# Altium schematic symbol library rys_component_lib.SchLib: 23 symbols
Pins are listed as number, name and electrical type; pins without a type are passive.

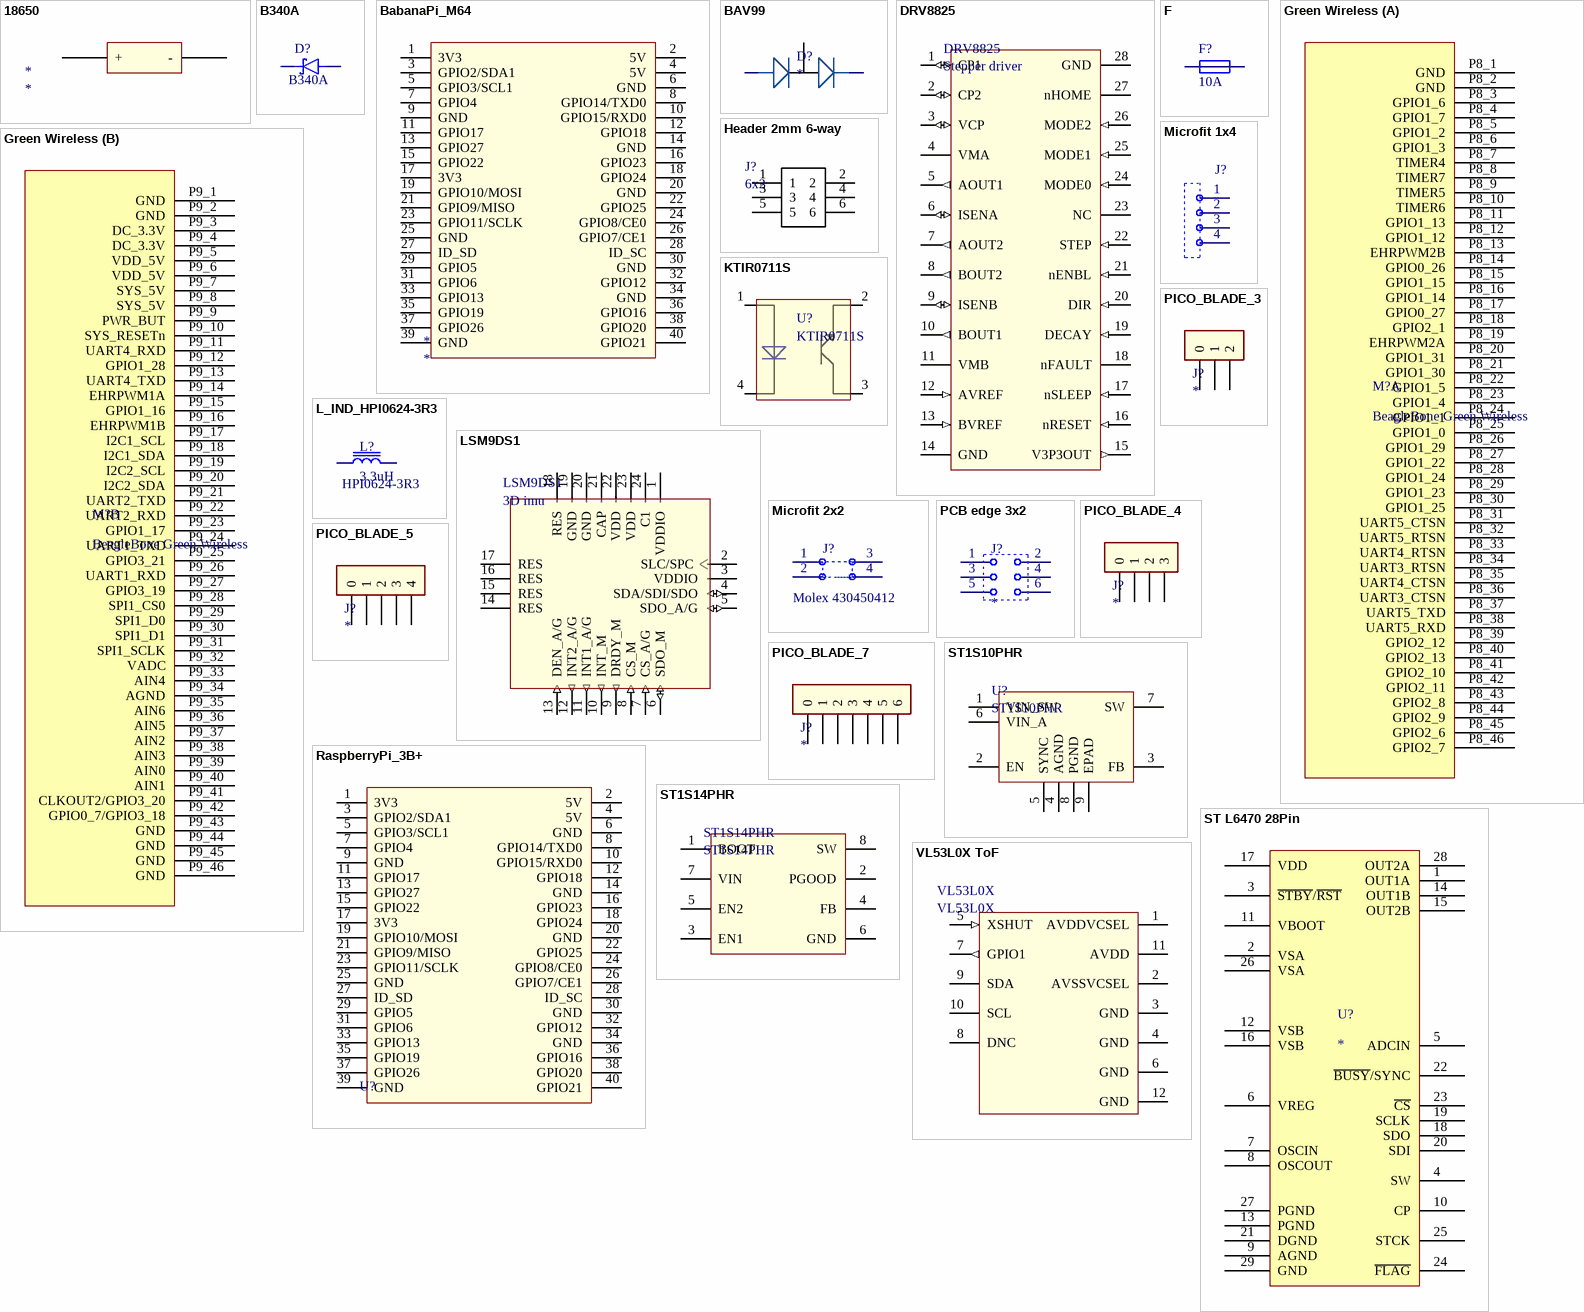
[diagram p0: symbols 18650 to VL53L0X ToF]

## 18650
designator *
Symbol: KEYSTONE 54; URL: https://www.tme.eu/pl/details/keys54/baterie-pojemniki-i-uchwyty/keystone/54/; Supplier: TME
footprint 18650
pins: 1 +, 2 -

## B340A
designator D?  Symbol: B340A
Schottky Diode low Uf 3A; Supplier: TME; URL: https://www.tme.eu/pl/details/b340a-13-f/diody-schottky-smd/diodes-incorporated/
footprint SMA/403D (5.59x292mm max)
pins: A 2, K 1

## BabanaPi_M64
designator *
pins: 1 3V3, 2 5V, 3 GPIO2/SDA1, 4 5V, 5 GPIO3/SCL1, 6 GND, 7 GPIO4, 8 GPIO14/TXD0, 9 GND, 10 GPIO15/RXD0, 11 GPIO17, 12 GPIO18, 13 GPIO27, 14 GND, 15 GPIO22, 16 GPIO23, 17 3V3, 18 GPIO24, 19 GPIO10/MOSI, 20 GND, 21 GPIO9/MISO, 22 GPIO25, 23 GPIO11/SCLK, 24 GPIO8/CE0, 25 GND, 26 GPIO7/CE1, 27 ID_SD, 28 ID_SC, 29 GPIO5, 30 GND, 31 GPIO6, 32 GPIO12, 33 GPIO13, 34 GND, 35 GPIO19, 36 GPIO16, 37 GPIO26, 38 GPIO20, 39 GND, 40 GPIO21

## BAV99
designator D?
Charge pump diode; ComponentLink1Description: Supplier; ComponentLink1URL: https://www.tme.eu/pl/details/bav99-dio/diody-uniwersalne-smd/diotec-semiconductor/bav99/?gclid=CjwKCAjwuO3cBRAyEiwAzOxKsjEfIjBEMiuf1MfOOw41XfFBLf9W3FTm4SrcCEQFmDl5D7iYJBHTpRoCdegQAvD_BwE
footprint SOT-23 (SOT-23; 3 Leads; Body 3.0 x 2.6 mm, inc. leads (LxW max))
pins: 1, 2, 3

## DRV8825
designator DRV8825, comment Stepper driver
Supplier: Farnell; URL: http://pl.farnell.com/texas-instruments/drv8825pwpr/motor-driver-stepper-htssop-28/dp/2769196?st=drv8825; Supplier 1: Digi-Key
footprint HTSSOP28 (Stepper driver power pad package)
pins: 1 CP1 (io) "Charge  pump  flying  capacito", 2 CP2 (io) "Charge  pump  flying  capacitor", 3 VCP (io) "High-side  gate  drive  voltage", 4 VMA "Bridge  A power  supply", 5 AOUT1 (out) "Bridge  A output  1", 6 ISENA (io) "Bridge  A ground  / Isense", 7 AOUT2 (out) "Bridge  A output  2", 8 BOUT2 (out) "Bridge  B output  2", 9 ISENB (io) "Bridge  B ground  / Isense", 10 BOUT1 (out) "Bridge  B output  1", 11 VMB "Bridge  B power  supply", 12 AVREF (in) "Bridge  A current  set reference  input", 13 BVREF (in) "Bridge  B current  set reference  input", 14 GND "Device  ground", 15 V3P3OUT (out) "3.3-V  regulator  output", 16 nRESET (in) "Reset  input", 17 nSLEEP (in) "Sleep  mode  input", 18 nFAULT (oc) "Fault", 19 DECAY (in) "Decay  mode", 20 DIR (in) "Direction  input", 21 nENBL (in) "Enable  input", 22 STEP (in) "Step  input", 23 NC "No connect", 24 MODE0 (in) "Microstep  mode  0", 25 MODE1 (in) "Microstep  mode  1", 26 MODE2 (in) "Microstep  mode  2", 27 nHOME (oc) "Home position", 28 GND "Device  ground"

## F
designator F?, comment 10A
Fuse
footprint 1206_R
pins: 1, 2

## Green Wireless
designator M?, comment BeagleBone Green Wireless
Supplier: Botland; Symbol: BeagleBone Green Wireless
footprint BeagleBone_Black
part A pins: P8_1 GND, P8_2 GND, P8_3 GPIO1_6, P8_4 GPIO1_7, P8_5 GPIO1_2, P8_6 GPIO1_3, P8_7 TIMER4, P8_8 TIMER7, P8_9 TIMER5, P8_10 TIMER6, P8_11 GPIO1_13, P8_12 GPIO1_12, P8_13 EHRPWM2B, P8_14 GPIO0_26, P8_15 GPIO1_15, P8_16 GPIO1_14, P8_17 GPIO0_27, P8_18 GPIO2_1, P8_19 EHRPWM2A, P8_20 GPIO1_31, P8_21 GPIO1_30, P8_22 GPIO1_5, P8_23 GPIO1_4, P8_24 GPIO1_1, P8_25 GPIO1_0, P8_26 GPIO1_29, P8_27 GPIO1_22, P8_28 GPIO1_24, P8_29 GPIO1_23, P8_30 GPIO1_25, P8_31 UART5_CTSN, P8_32 UART5_RTSN, P8_33 UART4_RTSN, P8_34 UART3_RTSN, P8_35 UART4_CTSN, P8_36 UART3_CTSN, P8_37 UART5_TXD, P8_38 UART5_RXD, P8_39 GPIO2_12, P8_40 GPIO2_13, P8_41 GPIO2_10, P8_42 GPIO2_11, P8_43 GPIO2_8, P8_44 GPIO2_9, P8_45 GPIO2_6, P8_46 GPIO2_7
part B pins: P9_1 GND, P9_2 GND, P9_3 DC_3.3V, P9_4 DC_3.3V, P9_5 VDD_5V, P9_6 VDD_5V, P9_7 SYS_5V, P9_8 SYS_5V, P9_9 PWR_BUT, P9_10 SYS_RESETn, P9_11 UART4_RXD, P9_12 GPIO1_28, P9_13 UART4_TXD, P9_14 EHRPWM1A, P9_15 GPIO1_16, P9_16 EHRPWM1B, P9_17 I2C1_SCL, P9_18 I2C1_SDA, P9_19 I2C2_SCL, P9_20 I2C2_SDA, P9_21 UART2_TXD, P9_22 UART2_RXD, P9_23 GPIO1_17, P9_24 UART1_TXD, P9_25 GPIO3_21, P9_26 UART1_RXD, P9_27 GPIO3_19, P9_28 SPI1_CS0, P9_29 SPI1_D0, P9_30 SPI1_D1, P9_31 SPI1_SCLK, P9_32 VADC, P9_33 AIN4, P9_34 AGND, P9_35 AIN6, P9_36 AIN5, P9_37 AIN2, P9_38 AIN3, P9_39 AIN0, P9_40 AIN1, P9_41 CLKOUT2/GPIO3_20, P9_42 GPIO0_7/GPIO3_18, P9_43 GND, P9_44 GND, P9_45 GND, P9_46 GND

## Header 2mm 6-way
designator J?, comment 6x2
Goldpin 2mmm angle
footprint Goldpin 2.00mm pin 2X3 angle
pins: 1, 2, 3, 4, 5, 6

## KTIR0711S
designator U?
KTIR0711S photointerrupter; Supplier: TME; URL: https://www.tme.eu/pl/details/ktir0711s/czujniki-fotoelektryczne-do-druku/kingbright-electronic/
footprint KTIR0711S (HIGH SENSITI  VITY PHOTOINTERRUPTER)
pins: 1, 2, 3, 4

## L_IND_HPI0624-3R3
designator L?, comment 3.3uH  Symbol: HPI0624-3R3
Inductor; Supplier: TME; URL: https://www.tme.eu/pl/details/hpi0624-3r3/dlawiki-smd-mocy/ferrocore/
footprint L_HPI0624 (7.3mm x 7.3mm x 3.2mm)
pins: 1, 2

## LSM9DS1
designator LSM9DS1, comment 3D imu
iNEMO inertial module:  3D accelerometer, 3D gyroscope, 3D magnetometer; Supplier: Farnell; URL: http://pl.farnell.com/stmicroelectronics/lsm9ds1tr/mems-accelero-gyroscope-magneto/dp/2532383?st=lsm9%20ds1
footprint LGA24
pins: 1 VDDIO (power) "Power supply for I/O pins Recommended 100 nF filter capacitor", 2 SLC/SPC "I  2  C serial clock (SCL) / SPI serial port clock (SPC)", 3 VDDIO (power) "Power supply for I/O pins Recommended 100 nF filter capacitor.", 4 SDA/SDI/SDO (io) "I  2  C serial data (SDA)  SPI serial data input (SDI)  3-wire interface serial data output (SDO)", 5 SDO_A/G (io) "SPI serial data output (SDO) fo  r the accelerometer and gyroscope  I  2  C least significant bit of the device address (SA0) for the accelerometer   and gyroscope", 6 SDO_M (io) "SPI serial data output (SDO) for the magnetometer  I  2  C least significant bit of the device address (SA0) for the magnetometer", 7 CS_A/G (in) "SPI enable   I  2  C/SPI mode selection for the accelerometer and gyroscope   (1: SPI idle mode / I  2  C communication enabled;   0: SPI communication mode / I  2  C disabled)", 8 CS_M (in) "SPI enable   I  2  C/SPI mode selection for the magnetometer   (1: SPI idle mode / I  2  C communication enabled;   0: SPI communication mode / I  2  C disabled)", 9 DRDY_M (out) "Magnetic sensor data ready", 10 INT_M (out) "Magnetic sensor interrupt", 11 INT1_A/G (out) "Accelerometer and gyroscope interrupt 1", 12 INT2_A/G (out) "Accelerometer and gyroscope interrupt 2", 13 DEN_A/G (in) "Accelerometer and gyroscope data enable", 14 RES "Reserved. Connected to GND", 15 RES "Reserved. Connected to GND", 16 RES "Reserved. Connected to GND", 17 RES "Reserved. Connected to GND", 18 RES "Reserved. Connected to GND", 19 GND "0 V supply", 20 GND "0 V supply", 21 CAP "Connected to GND with ceramic capacitor  10 nF (±10%), 16 V. 1 nF minimum value has   to be guaranteed under 11 V bias condition.", 22 VDD (power) "Power supply Recommended 100 nF plus 10 μF capacitors.", 23 VDD (power) "Power supply Recommended 100 nF plus 10 μF capacitors.", 24 C1 "Capacitor connection (C1 = 100 nF)"

## Microfit 1x4
designator J?, comment Molex Microfit  (value not drawn)
Symbol: Molex 436500429; Supplier: TME; URL: https://www.tme.eu/pl/details/mx-43650-0429/zlacza-sygnalowe-raster-300mm/molex/43650-0429/
footprint MICROFIT 4x1 Vertical (Molex Vertical 3.00mm pitch Micro-Fit 3.0 Wire-to-Board Header 436500429)
pins: 1, 2, 3, 4

## Microfit 2x2
designator J?, comment Symbol: Molex 430450412  (hidden comment: Molex Microfit)
2.5mm; Supplier: TME
footprint MICROFIT 2x2 Vertical (Molex Vertical 3.00mm pitch Micro-Fit 3.0 Wire-to-Board Header 430450412)
pins: 1, 2, 3, 4

## PCB edge 3x2
designator J?
footprint 2mmEdgePCB6Pin
pins: 1, 2, 3, 4, 5, 6

## PICO_BLADE_3
designator J?
1x3 header; URL: https://www.tme.eu/pl/details/mx-53047-0510/zlacza-sygnalowe-raster-125mm/molex/530470510/
footprint PicoBlade_THT_1x5_HEADER
pins: 0, 1, 2

## PICO_BLADE_4
designator J?
1x4 header; URL: https://www.tme.eu/pl/details/mx-53047-0510/zlacza-sygnalowe-raster-125mm/molex/530470510/
footprint PicoBlade_THT_1x4_HEADER
pins: 0, 1, 2, 3

## PICO_BLADE_5
designator J?
1x5 header; URL: https://www.tme.eu/pl/details/mx-53047-0510/zlacza-sygnalowe-raster-125mm/molex/530470510/
footprint PicoBlade_THT_1x5_HEADER
pins: 0, 1, 2, 3, 4

## PICO_BLADE_7
designator J?
1x7 header; URL: https://www.tme.eu/pl/details/mx-53047-0510/zlacza-sygnalowe-raster-125mm/molex/530470510/
footprint PicoBlade_THT_1x7_HEADER
pins: 0, 1, 2, 3, 4, 5, 6

## RaspberryPi_3B+
designator U?  (value not drawn)
footprint RaspberryPi (singleboard_computer_40PIN_header)
footprint RASPBERRYPI_S (singleboard_computer_40PIN_header)
pins: 1 3V3, 2 5V, 3 GPIO2/SDA1, 4 5V, 5 GPIO3/SCL1, 6 GND, 7 GPIO4, 8 GPIO14/TXD0, 9 GND, 10 GPIO15/RXD0, 11 GPIO17, 12 GPIO18, 13 GPIO27, 14 GND, 15 GPIO22, 16 GPIO23, 17 3V3, 18 GPIO24, 19 GPIO10/MOSI, 20 GND, 21 GPIO9/MISO, 22 GPIO25, 23 GPIO11/SCLK, 24 GPIO8/CE0, 25 GND, 26 GPIO7/CE1, 27 ID_SD, 28 ID_SC, 29 GPIO5, 30 GND, 31 GPIO6, 32 GPIO12, 33 GPIO13, 34 GND, 35 GPIO19, 36 GPIO16, 37 GPIO26, 38 GPIO20, 39 GND, 40 GPIO21

## ST1S10PHR
designator U?
DC/DC converter 3A; Supplier: TME; URL: https://www.tme.eu/pl/details/st1s10phr/regulatory-napiecia-uklady-dcdc/st-microelectronics/
footprint HSOP8 (H pad 8-Pin Small Outline Integrated Circuit 1.27 mm Pitch, IPC Medium Density)
pins: 1 VIN_SW, 2 EN, 3 FB, 4 AGND, 5 SYNC, 6 VIN_A, 7 SW, 8 PGND, 9 EPAD

## ST1S14PHR
designator ST1S14PHR
DC/DC converter 3A; Supplier: TME; URL: https://www.tme.eu/pl/details/st1s14phr/regulatory-napiecia-uklady-dcdc/st-microelectronics/
footprint HSOP8 (H pad 8-Pin Small Outline Integrated Circuit 1.27 mm Pitch, IPC Medium Density)
pins: 1 BOOT, 2 PGOOD, 3 EN1, 4 FB, 5 EN2, 6 GND, 7 VIN, 8 SW

## ST L6470 28Pin
designator U?
SPI stepper driver
footprint ST HTSSOP-28 (HTSSOP, 28-Leads, Body 9.70x4.40mm, Pitch 0.65mm, Thermal Pad 5.50x2.80mm, IPC Medium Density)
pins: 1 OUT1A, 2 VSA, 3 ~{STBY}/~{RST}, 4 SW, 5 ADCIN, 6 VREG, 7 OSCIN, 8 OSCOUT, 9 AGND, 10 CP, 11 VBOOT, 12 VSB, 13 PGND, 14 OUT1B, 15 OUT2B, 16 VSB, 17 VDD, 18 SDO, 19 SCLK, 20 SDI, 21 DGND, 22 ~{BUSY}/SYNC, 23 ~{CS}, 24 ~{FLAG}, 25 STCK, 26 VSA, 27 PGND, 28 OUT2A, 29 GND

## VL53L0X ToF
designator VL53L0X, comment VL53L0X
Time-of-Flight ranging and gesture detection sensor; Supplier: Farnell; URL: http://pl.farnell.com/stmicroelectronics/vl53l0cxv0dh-1/gesture-detection-sensor-digital/dp/2762754?st=VL53L0X
pins: 1 AVDDVCSEL "VCSEL Supply, to be connected to main supply", 2 AVSSVCSEL "VCSEL Ground, to be connected to main ground", 3 GND, 4 GND, 5 XSHUT (in) "Xshutdown pin, Active LOW", 6 GND, 7 GPIO1 (out) "Interrupt output. Open drain output", 8 DNC, 9 SDA, 10 SCL, 11 AVDD, 12 GND